# EAGLE library part NANO-ESP32 (library Arduino)
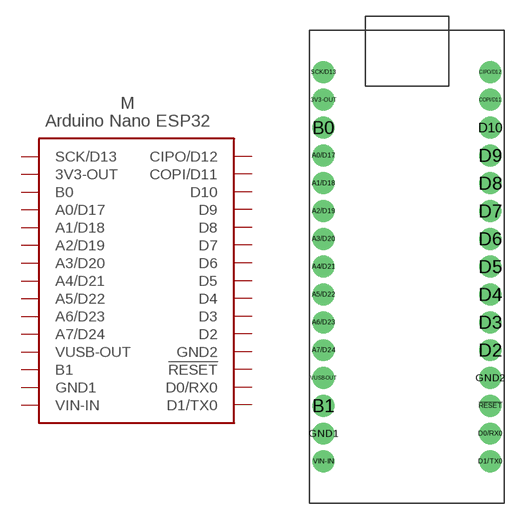
[diagram p0: symbol with the pads of NANO-ESP32; footprint NANO-ESP32]

Designator prefix M

## NANO-ESP32  [NANO-ESP32]
3V3-OUT  3V3-OUT
!RESET  !RESET
A0/D17  A0/D17
A1/D18  A1/D18
A2/D19  A2/D19
A3/D20  A3/D20
A4/D21  A4/D21
A5/D22  A5/D22
A6/D23  A6/D23
A7/D24  A7/D24
B0  B0
B1  B1
CIPO/D12  CIPO/D12
COPI/D11  COPI/D11
D0/RX0  D0/RX0
D1/TX0  D1/TX0
D2  D2
D3  D3
D4  D4
D5  D5
D6  D6
D7  D7
D8  D8
D9  D9
D10  D10
GND1  GND1
GND2  GND2
SCK/D13  SCK/D13
VIN-IN  VIN-IN
VUSB-OUT  VUSB-OUT

## Footprint NANO-ESP32 (pad centres in mm)
drill 1 pad 2: 3V3-OUT -7.62,15.24; !RESET 7.62,-12.7; A0/D17 -7.62,10.16; A1/D18 -7.62,7.62; A2/D19 -7.62,5.08; A3/D20 -7.62,2.54; A4/D21 -7.62,0; A5/D22 -7.62,-2.54; A6/D23 -7.62,-5.08; A7/D24 -7.62,-7.62; B0 -7.62,12.7; B1 -7.62,-12.7; CIPO/D12 7.62,17.78; COPI/D11 7.62,15.24; D0/RX0 7.62,-15.24; D1/TX0 7.62,-17.78; D2 7.62,-7.62; D3 7.62,-5.08; D4 7.62,-2.54; D5 7.62,0; D6 7.62,2.54; D7 7.62,5.08; D8 7.62,7.62; D9 7.62,10.16; D10 7.62,12.7; GND1 -7.62,-15.24; GND2 7.62,-10.16; SCK/D13 -7.62,17.78; VIN-IN -7.62,-17.78; VUSB-OUT -7.62,-10.16